# EAGLE library part ACS712 (library 2020-08-18 Motor Board)
ACS712-{X} Hall effect current sensor {X} = current rating
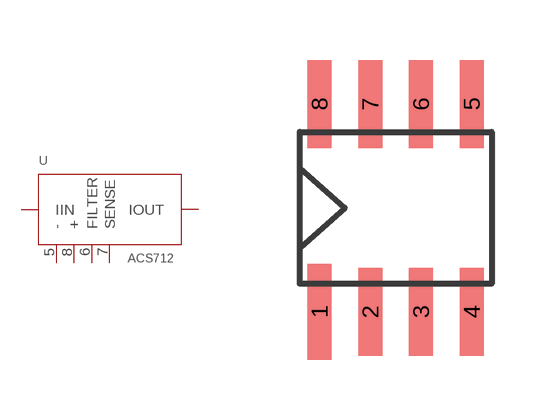
[diagram p4: symbol with the pads of SO8; footprint SO8]

Designator prefix -

## ACS712  [SO8]
1  IIN  pwr
2  IIN  pwr
3  IOUT  pwr
4  IOUT  pwr
5  -  pwr
6  FILTER  pas
7  SENSE  out
8  +  pwr

## Footprint SO8 (pad centres in mm)
SMALL OUTLINE INTEGRATED CIRCUIT
smd 0.6 x 2.4: 1 -1.905,-2.6
smd 0.6 x 2.2: 2 -0.635,-2.6; 3 0.635,-2.6; 4 1.905,-2.6; 5 1.905,2.6; 6 0.635,2.6; 7 -0.635,2.6; 8 -1.905,2.6